# EAGLE library part ATTINY1634 (library U-AVR)
ATTINY1634 MCU 16 Kbytes FLASH 1k bytes SRAM 256 bytes EEPROM 2 USART 1 I2C slave (cost a USART) 1 SPI (programing port) 8 MHz on chip oscillator (2.7-5.5V, ATTINY1634R has 2% accuracy)
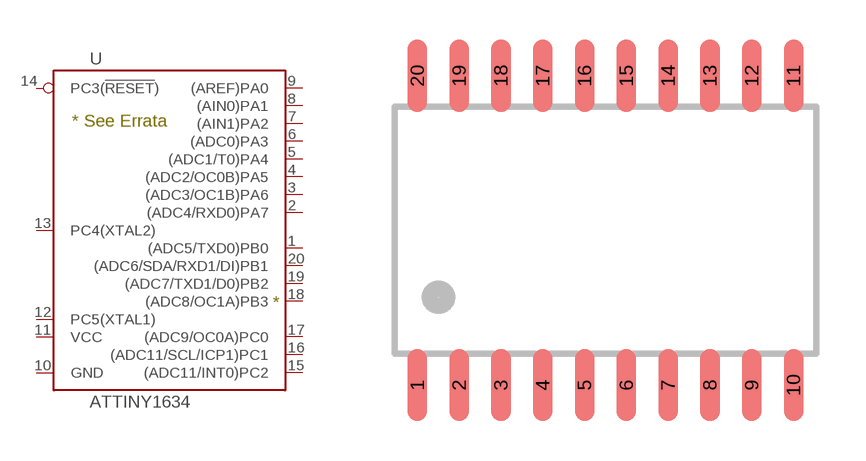
[diagram p6: symbol with the pads of SOIC20; footprint SOIC20]

Designator prefix U

## ATTINY1634S1  [SOIC20]
1  (ADC5/TXD0)PB0
2  (ADC4/RXD0)PA7
3  (ADC3/OC1B)PA6
4  (ADC2/OC0B)PA5
5  (ADC1/T0)PA4
6  (ADC0)PA3
7  (AIN1)PA2
8  (AIN0)PA1
9  (AREF)PA0
10  GND  pwr
11  VCC  pwr
12  PC5(XTAL1)
13  PC4(XTAL2)
14  PC3(!RESET!)
15  (ADC11/INT0)PC2
16  (ADC11/SCL/ICP1)PC1
17  (ADC9/OC0A)PC0
18  (ADC8/OC1A)PB3
19  (ADC7/TXD1/D0)PB2
20  (ADC6/SDA/RXD1/DI)PB1

## Footprint SOIC20 (pad centres in mm)
Small Outline [SOIC] 20 Lead 7.5mm wide 1.27mm pitch
smd 0.6 x 2.2: 1 -5.715,-4.7; 2 -4.445,-4.7; 3 -3.175,-4.7; 4 -1.905,-4.7; 5 -0.635,-4.7; 6 0.635,-4.7; 7 1.905,-4.7; 8 3.175,-4.7; 9 4.445,-4.7; 10 5.715,-4.7; 11 5.715,4.7; 12 4.445,4.7; 13 3.175,4.7; 14 1.905,4.7; 15 0.635,4.7; 16 -0.635,4.7; 17 -1.905,4.7; 18 -3.175,4.7; 19 -4.445,4.7; 20 -5.715,4.7